# EAGLE library part PIN_1X10 (library FaBo-PIN)
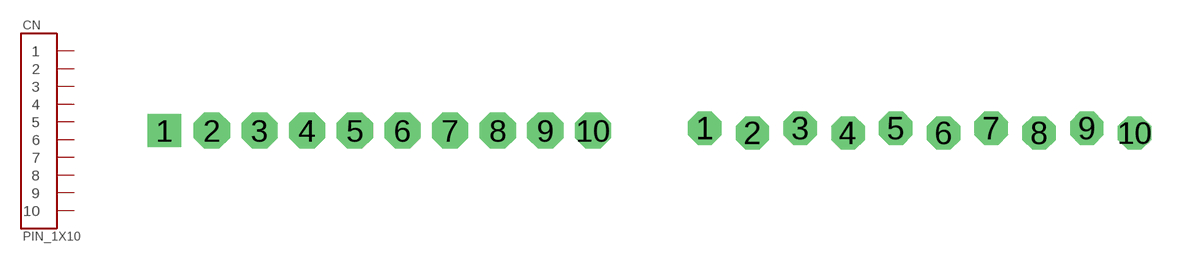
[diagram p13: symbol with the pads of PIN_1X10; footprints PIN_1X10, PIN_1X10_SNEAKY]

Designator prefix CN

## PIN_1X10  [PIN_1X10]
1  1
2  2
3  3
4  4
5  5
6  6
7  7
8  8
9  9
10  10

## PIN_1X10-SNEAKY  [PIN_1X10_SNEAKY]
Pads as for PIN_1X10

## Footprint PIN_1X10 (pad centres in mm)
drill 1.1 pad 1.778 square: 1 -11.43,0
drill 1.1 pad 1.93 octagon: 2 -8.89,0; 3 -6.35,0; 4 -3.81,0; 5 -1.27,0; 6 1.27,0; 7 3.81,0; 8 6.35,0; 9 8.89,0; 10 11.43,0

## Footprint PIN_1X10_SNEAKY (pad centres in mm)
drill 1 pad 1.778 octagon: 1 -11.43,0.127; 2 -8.89,-0.127; 3 -6.35,0.127; 4 -3.81,-0.127; 5 -1.27,0.127; 6 1.27,-0.127; 7 3.81,0.127; 8 6.35,-0.127; 9 8.89,0.127; 10 11.43,-0.127